# Altium footprint library DRB-9MA.PcbLib: 1 footprints
Each footprint in its own frame and in the unit in brackets; x right, y up, seen from the top. Pads: shape width x height; smd on the part's side, far side on the other; paste and mask are expansions set on the pad; w line width, h text height; cw(c..) or ccw(c..) is an arc to the next point about the centre after c.
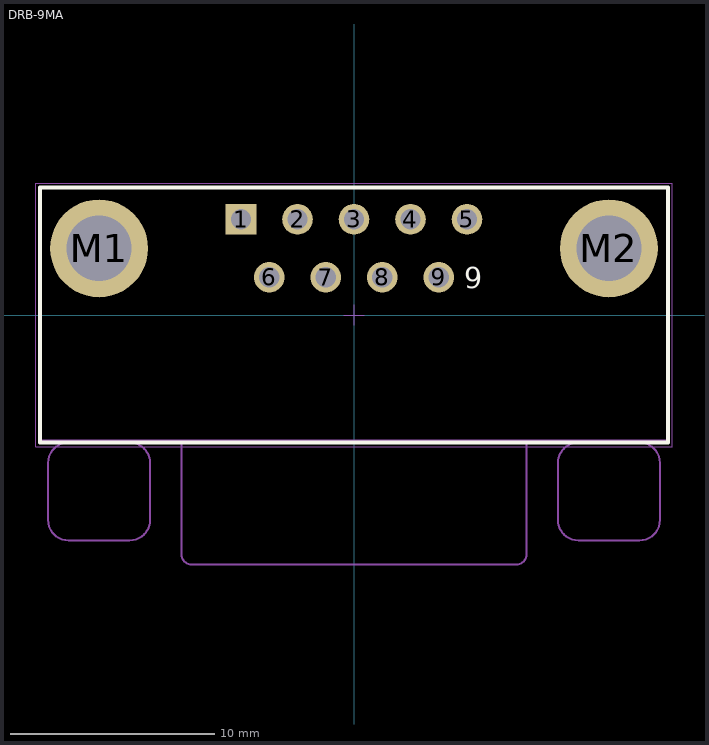
[diagram p0: the footprint, top view; thin cyan lines are the x and y axes]

## DRB-9MA [mm]
height 12.5
pads (11):
  rect 1.5x1.5 hole 1: 1(-5.54,4.69)
  round 1.5 hole 1: 2(-2.77,4.69) 3(0,4.69) 4(2.77,4.69) 5(5.54,4.69) 6(-4.155,1.85) 7(-1.385,1.85) 8(1.385,1.85) 9(4.155,1.85)
  round 4.8 hole 3.2: M1(-12.5,3.27) M2(12.5,3.27)
Top Overlay:
  lines w0.2: -15.4,-6.25 15.4,-6.25 15.4,6.25 -15.4,6.25 -15.4,-6.25
  text "9" at 5.4,1.32 h1.02
Mechanical 2:
  lines w0.1: -15.4,-6.15 15.4,-6.15
  text "PCB Edge" at -3.683,-5.461 h1.02
Top 3D Body:
  lines w0.1: -14,-6.25 ccw(c-14,-7.25) -15,-7.25 -15,-10.05 ccw(c-14,-10.05) -14,-11.05 -11,-11.05 ccw(c-11,-10.05) -10,-10.05 -10,-7.25 ccw(c-11,-7.25) -11,-6.25 ; -8.46,-6.25 -8.46,-11.73 ccw(c-7.96,-11.73) -7.96,-12.23 7.94,-12.23 ; 7.96,-12.23 ccw(c7.96,-11.73) 8.46,-11.73 8.46,-6.25 ; 11,-6.25 ccw(c11,-7.25) 10,-7.25 10,-10.05 ccw(c11,-10.05) 11,-11.05 14,-11.05 ccw(c14,-10.05) 15,-10.05 15,-7.25 ccw(c14,-7.25) 14,-6.25 ; -15.4,-6.25 -15.4,6.25 15.4,6.25 15.4,-6.25 -15.4,-6.25 ; 7.95,-12.23 7.95,-12.23
Top Courtyard:
  lines w0.05: -0.5,0 0.5,0 ; 0,-0.5 0,0.5 ; -15.6,-6.45 -15.6,6.45 15.6,6.45 15.6,-6.45 -15.6,-6.45
3D body "618009231221.stp": height 12.55, standoff -3.8, extent -15.405,-12.25 15.405,6.25